# Altium footprint library 接插杂件封装库.PcbLib: 41 footprints (part 2 of 3)
Each footprint in its own frame and in the unit in brackets; x right, y up, seen from the top. Pads: shape width x height; smd on the part's side, far side on the other; paste and mask are expansions set on the pad; w line width, h text height; cw(c..) or ccw(c..) is an arc to the next point about the centre after c.
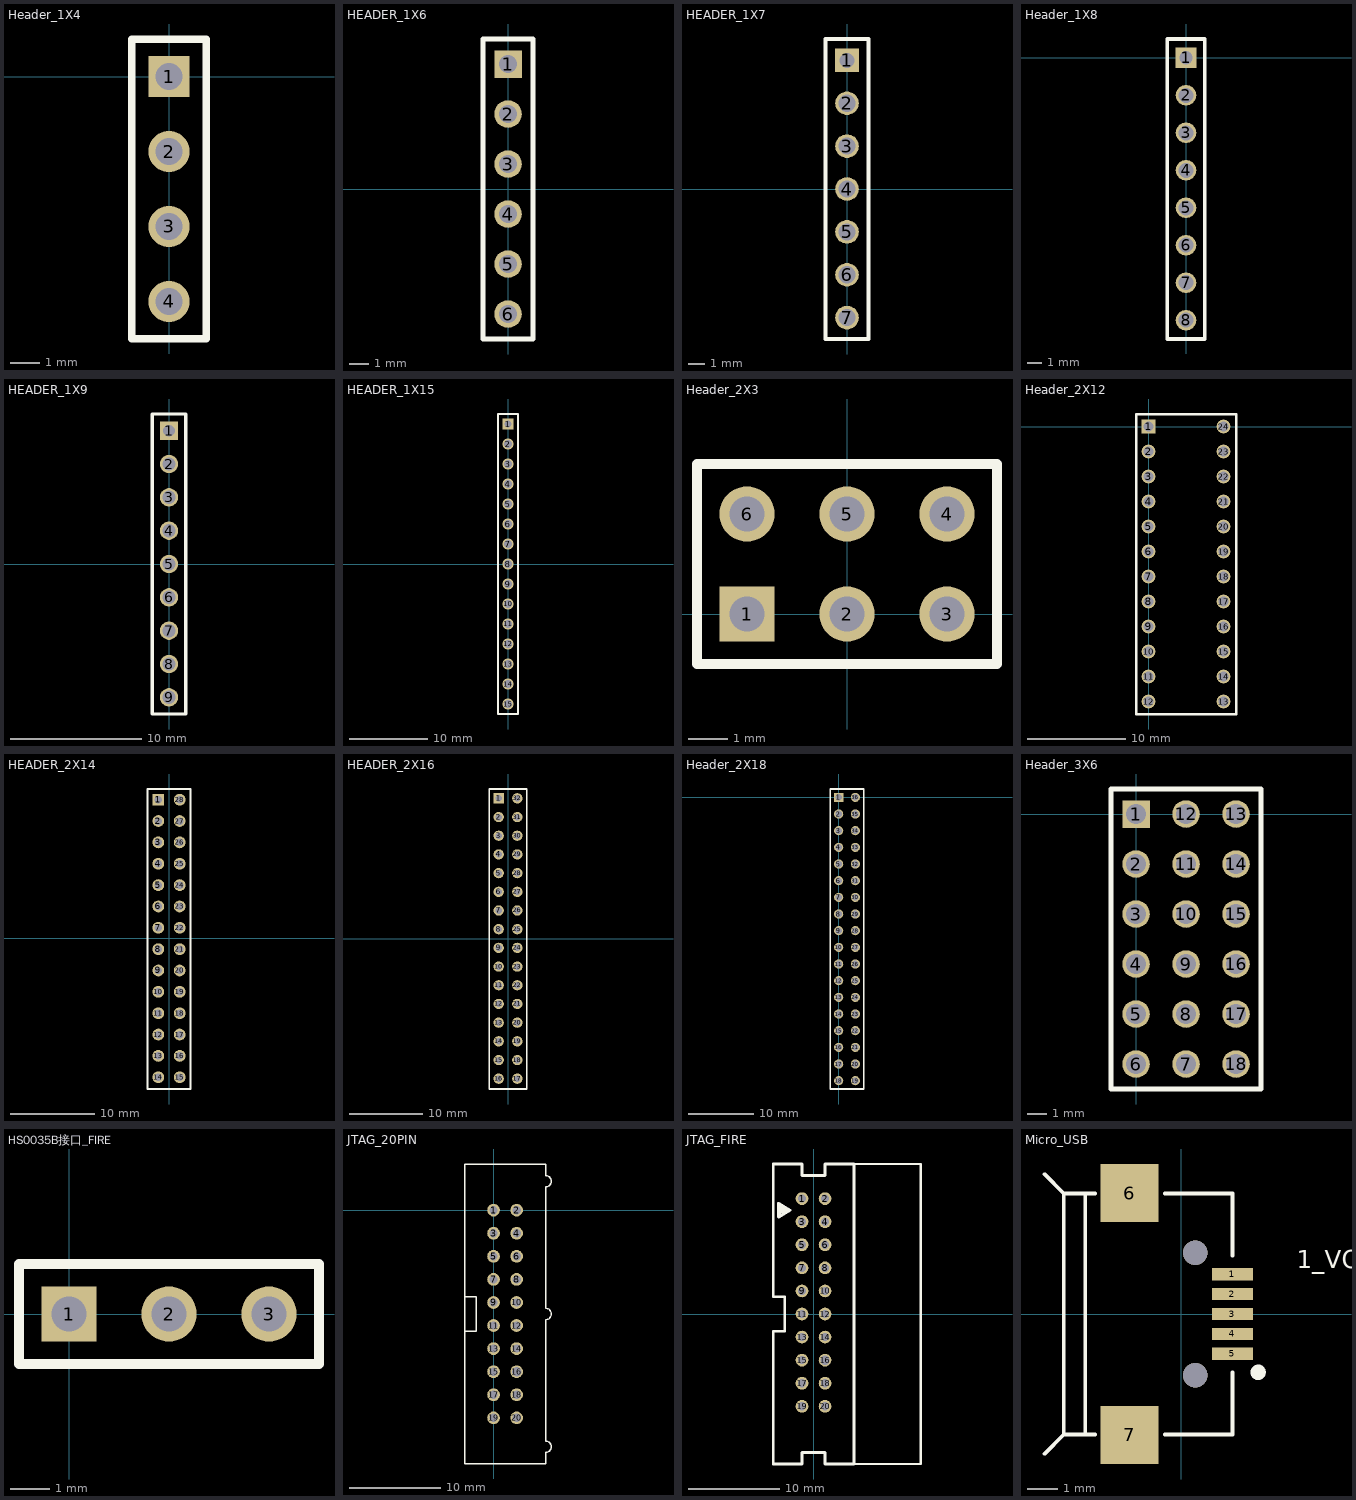
[diagram p1: the footprints below, top view; thin cyan lines are the x and y axes]

## Header_1X4 [mil]
pads (4):
  rect 55x55 hole 35.5: 1(0,0)
  round 55 hole 35.5: 2(0,-100) 3(0,-200) 4(0,-300)
Top Overlay:
  lines w10: -50,-350 -50,50 50,50 50,-350 -50,-350

## HEADER_1X6 [mil]
pads (6):
  rect 55x55 hole 35.43: 1(0,250)
  round 55 hole 35.5: 2(0,150)
  round 55 hole 35.43: 3(0,50) 4(0,-50) 5(0,-150) 6(0,-250)
Top Overlay:
  lines w10: -50,-300 50,-300 50,300 -50,300 -50,-300

## HEADER_1X7 [mil]
pads (7):
  rect 55x55 hole 35.43: 1(0,300)
  round 55 hole 40: 2(0,200) 3(0,100) 4(0,0) 5(0,-100) 6(0,-200) 7(0,-300)
Top Overlay:
  lines w10: -50,-350 -50,350 50,350 50,-350 -50,-350

## Header_1X8 [mil]
pads (8):
  rect 55x55 hole 35.43: 1(0,0)
  round 55 hole 40: 2(0,-100) 3(0,-200) 4(0,-300) 5(0,-400) 6(0,-500) 7(0,-600) 8(0,-700)
Top Overlay:
  lines w10: -50,-750 -50,50 50,50 50,-750 -50,-750

## HEADER_1X9 [mil]
pads (9):
  rect 55x55 hole 35.43: 1(0,400)
  round 55 hole 40: 2(0,300) 3(0,200) 4(0,100) 5(0,0) 6(0,-100) 7(0,-200) 8(0,-300) 9(0,-400)
Top Overlay:
  lines w10: -50,-450 -50,450 50,450 50,-450 -50,-450

## HEADER_1X15 [mil]
pads (15):
  rect 55x55 hole 35.43: 1(0,700)
  round 55 hole 40: 2(0,600) 3(0,500) 4(0,400) 5(0,300) 6(0,200) 7(0,100) 8(0,0) 9(0,-100) 10(0,-200) 11(0,-300) 12(0,-400) 13(0,-500) 14(0,-600) 15(0,-700)
Top Overlay:
  lines w10: -50,-750 -50,750 50,750 50,-750 -50,-750

## Header_2X3 [mil]
pads (6):
  rect 55x55 hole 35.43: 1(-100,0)
  round 55 hole 35.43: 2(0,0) 3(100,0) 4(100,100) 5(0,100) 6(-100,100)
Top Overlay:
  lines w10: -150,-50 150,-50 150,150 -150,150 -150,-50

## Header_2X12 [mil]
pads (24):
  rect 55x55 hole 40: 1(0,0)
  round 55 hole 40: 2(0,-100) 3(0,-200) 4(0,-300) 5(0,-400) 6(0,-500) 7(0,-600) 8(0,-700) 9(0,-800) 10(0,-900) 11(0,-1000) 12(0,-1100) 13(300,-1100) 14(300,-1000) 15(300,-900) 16(300,-800) 17(300,-700) 18(300,-600) 19(300,-500) 20(300,-400) 21(300,-300) 22(300,-200) 23(300,-100) 24(300,0)
Top Overlay:
  lines w10: -50,-1150 -50,50 350,50 350,-1150 -50,-1150

## HEADER_2X14 [mil]
pads (28):
  rect 55x55 hole 35: 1(-50,650)
  round 55 hole 35: 2(-50,550) 3(-50,450) 4(-50,350) 5(-50,250) 6(-50,150) 7(-50,50) 8(-50,-50) 9(-50,-150) 10(-50,-250) 11(-50,-350) 12(-50,-450) 13(-50,-550) 14(-50,-650) 15(50,-650) 16(50,-550) 17(50,-450) 18(50,-350) 19(50,-250) 20(50,-150) 21(50,-50) 22(50,50) 23(50,150) 24(50,250) 25(50,350) 26(50,450) 27(50,550) 28(50,650)
Top Overlay:
  lines w10: -100,-705 100,-705 100,700 -100,700 -100,-705

## HEADER_2X16 [mil]
pads (32):
  rect 55x55 hole 35: 1(-50,750)
  round 55 hole 35: 2(-50,650) 3(-50,550) 4(-50,450) 5(-50,350) 6(-50,250) 7(-50,150) 8(-50,50) 9(-50,-50) 10(-50,-150) 11(-50,-250) 12(-50,-350) 13(-50,-450) 14(-50,-550) 15(-50,-650) 16(-50,-750) 17(50,-750) 18(50,-650) 19(50,-550) 20(50,-450) 21(50,-350) 22(50,-250) 23(50,-150) 24(50,-50) 25(50,50) 26(50,150) 27(50,250) 28(50,350) 29(50,450) 30(50,550) 31(50,650) 32(50,750)
Top Overlay:
  lines w10: -100,-805 -100,800 100,800 100,-805 -100,-805

## Header_2X18 [mil]
pads (36):
  rect 55x55 hole 40: 1(0,0)
  round 55 hole 40: 2(0,-100) 3(0,-200) 4(0,-300) 5(0,-400) 6(0,-500) 7(0,-600) 8(0,-700) 9(0,-800) 10(0,-900) 11(0,-1000) 12(0,-1100) 13(0,-1200) 14(0,-1300) 15(0,-1400) 16(0,-1500) 17(0,-1600) 18(0,-1700) 19(100,-1700) 20(100,-1600) 21(100,-1500) 22(100,-1400) 23(100,-1300) 24(100,-1200) 25(100,-1100) 26(100,-1000) 27(100,-900) 28(100,-800) 29(100,-700) 30(100,-600) 31(100,-500) 32(100,-400) 33(100,-300) 34(100,-200) 35(100,-100) 36(100,0)
Top Overlay:
  lines w10: -50,-1750 -50,50 150,50 150,-1750 -50,-1750

## Header_3X6 [mil]
pads (18):
  rect 55x55 hole 40: 1(0,0)
  round 55 hole 40: 2(0,-100) 3(0,-200) 4(0,-300) 5(0,-400) 6(0,-500) 7(100,-500) 8(100,-400) 9(100,-300) 10(100,-200) 11(100,-100) 12(100,0) 13(200,0) 14(200,-100) 15(200,-200) 16(200,-300) 17(200,-400) 18(200,-500)
Top Overlay:
  lines w10: -50,-550 250,-550 250,50 -50,50 -50,-550

## HS0035B接口_FIRE [mil]
pads (3):
  rect 55x55 hole 35.43: 1(0,0)
  round 55 hole 35.43: 2(100,0) 3(200,0)
Top Overlay:
  lines w10: -50,-50 -50,50 250,50 250,-50 -50,-50

## JTAG_20PIN [mil]
pads (20):
  round 55 hole 35.5: 1(0,0) 2(100,0) 3(0,-100) 4(100,-100) 5(0,-200) 6(100,-200) 7(0,-300) 8(100,-300) 9(0,-400) 10(100,-400) 11(0,-500) 12(100,-500) 13(0,-600) 14(100,-600) 15(0,-700) 17(0,-800) 18(100,-800) 19(0,-900) 20(100,-900)
  round 55 hole 40: 16(100,-700)
Top Overlay:
  lines w6: -125,-525 -75,-525 -75,-375 -125,-375 ; -125,-1100 225,-1100 225,-1050 ccw(c225,-1025) 225,-1000 225,-475 ccw(c225,-450) 225,-425 225,100 ccw(c225,125) 225,150 225,200 -125,200 -125,-1100

## JTAG_FIRE [mil]
pads (20):
  round 55 hole 35.5: 1(-50,500) 2(50,500) 3(-50,400) 4(50,400) 5(-50,300) 6(50,300) 7(-50,200) 8(50,200) 9(-50,100) 10(50,100) 11(-50,0) 12(50,0) 13(-50,-100) 14(50,-100) 15(-50,-200) 17(-50,-300) 18(50,-300) 19(-50,-400) 20(50,-400)
  round 55 hole 40: 16(50,-200)
Top Overlay:
  region: -121.58,455 -121.58,445 -111.58,445 -111.58,455
  region: -131.57,460 -131.57,435 -121.57,435 -121.57,460
  region: -151.57,470 -151.57,435 -131.57,435 -131.57,470
  lines w10: 175,-650 465,-650 465,650 175,650
  lines w12: -151.57,430 -126.57,455 ; -146.57,470 -121.57,445 ; -175,-650 -50,-650 -50,-600 50,-600 50,-650 175,-650 175,650 50,650 50,600 -50,600 -50,650 -175,650 -175,75 -125,75 -125,-75 -175,-75 -175,-650 ; -151.57,420 -101.57,450 -151.57,480 -151.57,420

## Micro_USB [mm] "Micro_USB Dock 5 Pin"
pads (7):
  rect 1.35x0.4 smd: 1(1.679,1.3) 2(1.679,0.65) 3(1.679,0) 4(1.679,-0.65) 5(1.679,-1.3)
  rect 1.9x1.9 smd: 6(-1.679,3.95) 7(-1.679,-3.95)
via 0.471,2 diameter 0.8 hole 0.8
via 0.471,-2 diameter 0.8 hole 0.8
Top Overlay:
  circle w0.25: c2.519,-1.905 r0.125
  lines w0.127: -4.459,-4.567 -3.829,-3.937 -2.813,-3.937 ; -4.459,4.567 -3.829,3.937 -2.813,3.937 ; -3.829,-3.9 -3.829,3.9 ; -3.13,-3.863 -3.13,3.937 ; -0.527,-3.937 1.679,-3.937 ; -0.527,3.937 1.679,3.937 ; 1.679,-3.9 1.679,-1.905 ; 1.679,1.905 1.679,3.9
  text "1_VCC" at 3.785,1.295 h1